# Altium integrated library HK_ALTIUM_COM_LIB.IntLib: 112 symbols
Pins are listed as number, name and electrical type; pins without a type are passive.

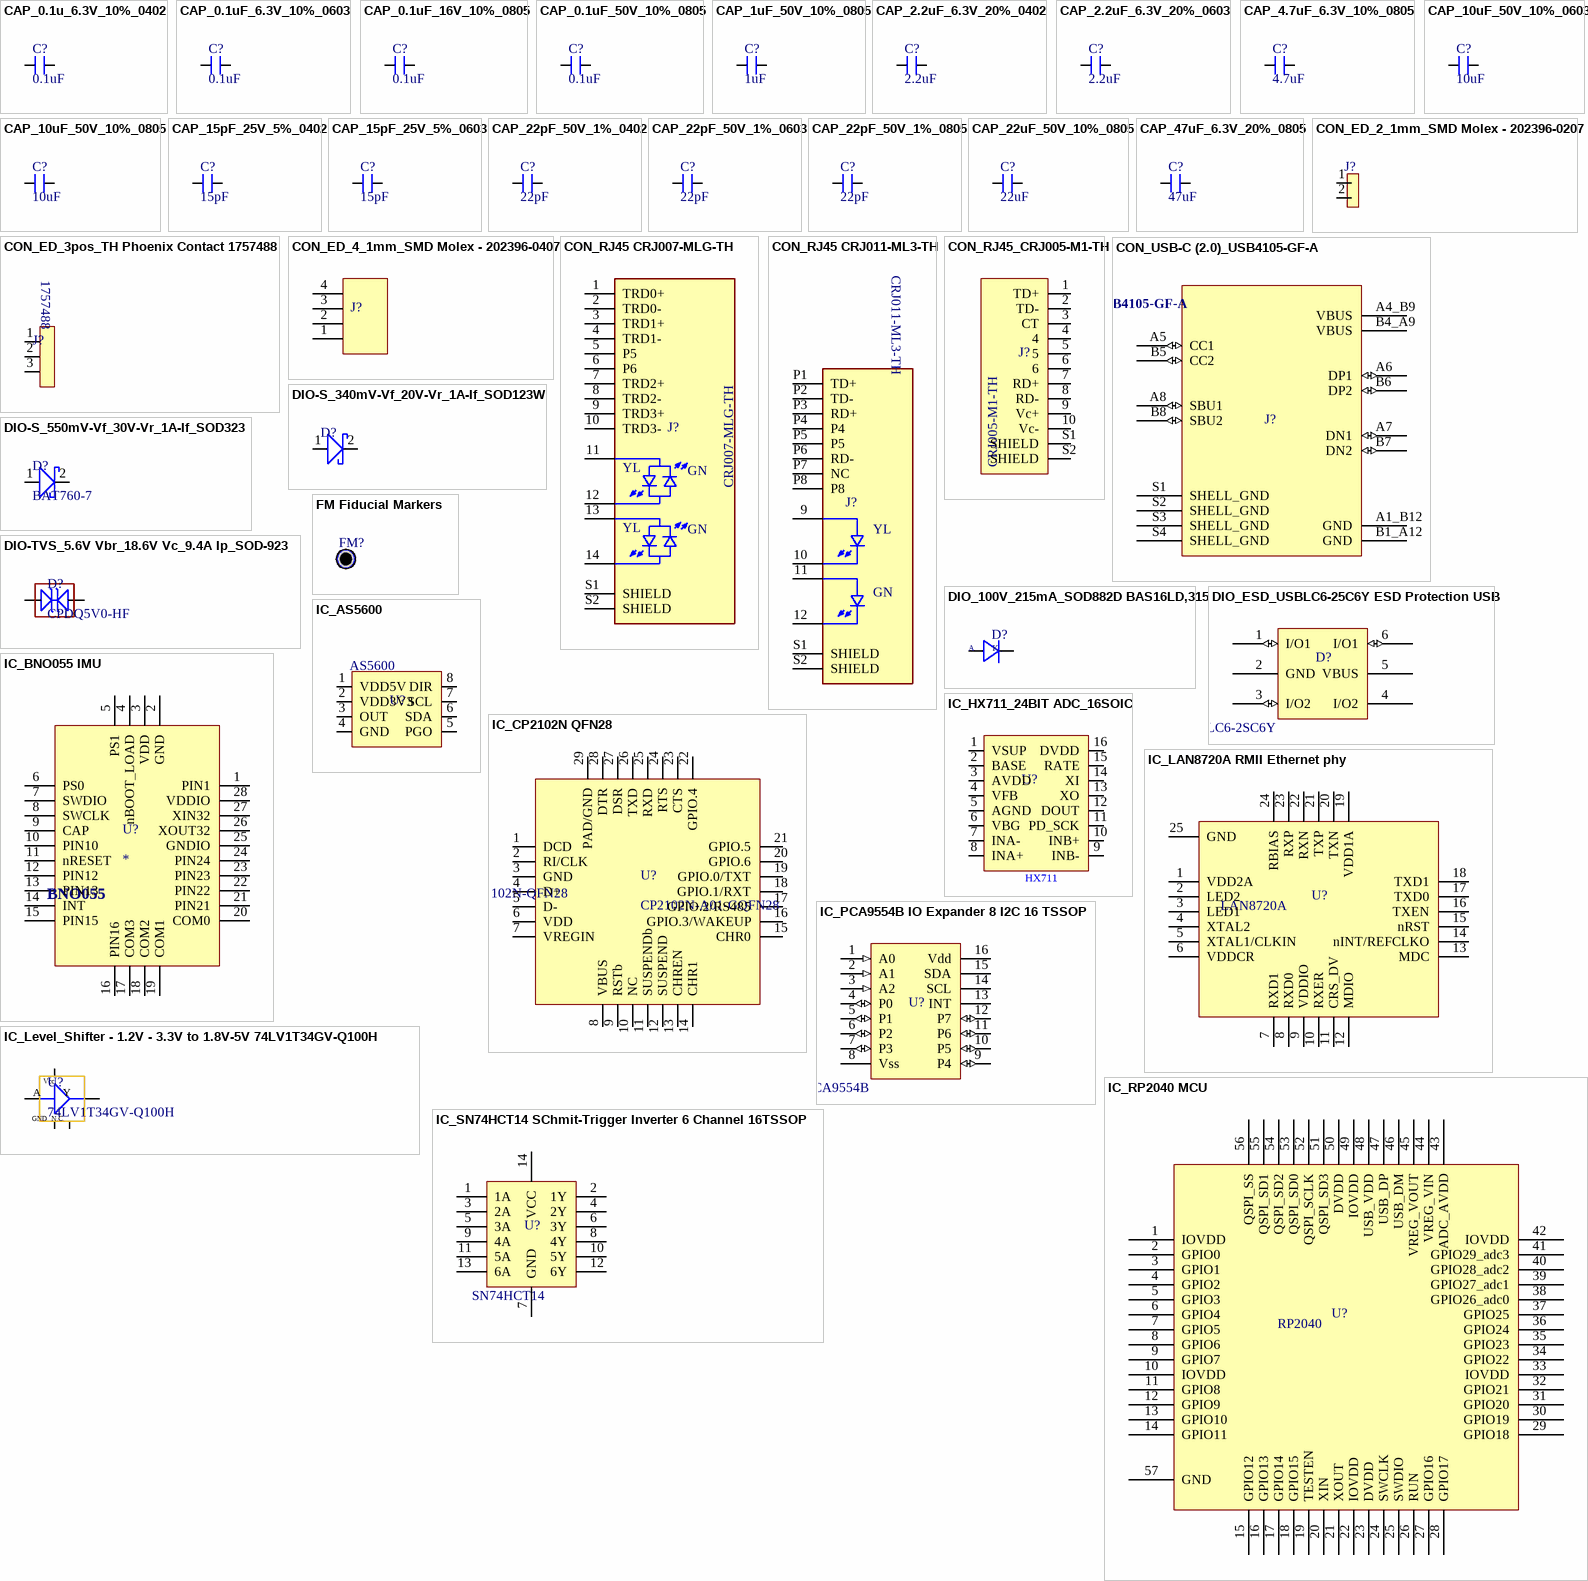
[diagram p0: symbols CAP_0.1u_6.3V_10%_0402 to IC_SN74HCT14 SChmit-Trigger Inverter 6 Channel 16TSSOP]

## CAP_0.1u_6.3V_10%_0402
designator C?, comment 0.1uF
Part No - C0402C104K9PACTU / Cap Ceramic 0.1uF 6.3V X5R 10% SMD 0402 85C Paper T/R
footprint CAP_0402
pins: 1, 2

## CAP_0.1uF_6.3V_10%_0603
designator C?, comment 0.1uF
footprint CAP_0603 (Chip Capacitor 0603, 2-Leads, Body 1.68x0.88mm, IPC Medium Density)
pins: 1, 2

## CAP_0.1uF_16V_10%_0805
designator C?, comment 0.1uF
Part No- C0805C104K4RACTU / Cap Ceramic 0.1uF 16V X7R 10% SMD 0805 125°C T/R
footprint CAP_0805 (Chip Capacitor, 2-Leads, Body 2.10x1.35mm, IPC Medium Density)
pins: 1, 2

## CAP_0.1uF_50V_10%_0805
designator C?, comment 0.1uF
footprint CAP_0805 (Chip Capacitor, 2-Leads, Body 2.10x1.35mm, IPC Medium Density)
pins: 1, 2

## CAP_1uF_50V_10%_0805
designator C?, comment 1uF
footprint CAP_0805 (Chip Capacitor, 2-Leads, Body 2.10x1.35mm, IPC Medium Density)
pins: 1, 2

## CAP_2.2uF_6.3V_20%_0402
designator C?, comment 2.2uF
Part No- C0402C225M9PACTU / CAP CER 2.2UF 6.3V X5R 0402
footprint CAP_0402
pins: 1, 2

## CAP_2.2uF_6.3V_20%_0603
designator C?, comment 2.2uF
Part No- C0603C225M9PACTU / Cap Ceramic 2.2uF 6.3V X5R 20% SMD 0603 85°C Paper T/R
footprint CAP_0603 (Chip Capacitor 0603, 2-Leads, Body 1.68x0.88mm, IPC Medium Density)
pins: 1, 2

## CAP_4.7uF_6.3V_10%_0805
designator C?, comment 4.7uF
footprint CAP_0805 (Chip Capacitor, 2-Leads, Body 2.10x1.35mm, IPC Medium Density)
pins: 1, 2

## CAP_10uF_50V_10%_0603
designator C?, comment 10uF
footprint CAP_0603 (Chip Capacitor 0603, 2-Leads, Body 1.68x0.88mm, IPC Medium Density)
pins: 1, 2

## CAP_10uF_50V_10%_0805
designator C?, comment 10uF
footprint CAP_0805 (Chip Capacitor, 2-Leads, Body 2.10x1.35mm, IPC Medium Density)
pins: 1, 2

## CAP_15pF_25V_5%_0402
designator C?, comment 15pF
Part No- CC0402JRNPO8BN150 / 0402 15 pF 25 V ±5% Tolerance C0G/NP0 Multilayer Ceramic Capacitor
footprint CAP_0402
pins: 1, 2

## CAP_15pF_25V_5%_0603
designator C?, comment 15pF
Part No- CC0603JRNPO8BN150 / Surface Mount Ceramic Multilayer Capacitor 15pF 5% C0G 25V 0603 Paper T/R
footprint CAP_0603 (Chip Capacitor 0603, 2-Leads, Body 1.68x0.88mm, IPC Medium Density)
pins: 1, 2

## CAP_22pF_50V_1%_0402
designator C?, comment 22pF
PArt No- C0402C220F5HACAUTO / CAP CER 0402 22PF 50V ULTRA STAB
footprint CAP_0402
pins: 1, 2

## CAP_22pF_50V_1%_0603
designator C?, comment 22pF
Part No- C0603C220F5GACAUTO / Cap, AEC-Q200, 22PF, 50V, Mlcc, 0603;
footprint CAP_0603 (Chip Capacitor 0603, 2-Leads, Body 1.68x0.88mm, IPC Medium Density)
pins: 1, 2

## CAP_22pF_50V_1%_0805
designator C?, comment 22pF
Part No- C0805C220F5GACTU / Cap Ceramic 22pF 50V C0G 1% SMD 0805 125°C Paper T/R
footprint CAP_0805 (Chip Capacitor, 2-Leads, Body 2.10x1.35mm, IPC Medium Density)
pins: 1, 2

## CAP_22uF_50V_10%_0805
designator C?, comment 22uF
footprint CAP_0805 (Chip Capacitor, 2-Leads, Body 2.10x1.35mm, IPC Medium Density)
pins: 1, 2

## CAP_47uF_6.3V_20%_0805
designator C?, comment 47uF
Part No- C0805C476M9PACTU / CAP CER 47UF 6.3V X5R 0805
footprint CAP_0805 (Chip Capacitor, 2-Leads, Body 2.10x1.35mm, IPC Medium Density)
pins: 1, 2

## CON_ED_2_1mm_SMD Molex - 202396-0207
designator J?  (value not drawn)
Conn Shrouded Header (4 Sides) HDR 2 POS 1mm Solder RA Side Entry SMD Pico-Clasp™ T/R
pins: 1 A, 2 B

## CON_ED_3pos_TH Phoenix Contact 1757488
designator J?  (value not drawn)
TERM BLOCK HDR 3POS 90DEG 5MM / 3 Position Terminal Block Header, Male Pins, Shrouded (4 Side) 0.197" (5.00mm) 90°, Right Angle Through Hole / Mates with : 1765344
footprint CON_ED_3Pos_TH Phoenix Contact 1757488
pins: 1 13, 2 14, 3 15
text: 1757488

## CON_ED_4_1mm_SMD Molex - 202396-0407
designator J?  (value not drawn)
Conn Shrouded Header (4 Sides) HDR 4 POS 1mm Solder RA SMD Pico-Clasp™ T/R
pins: 1 GND, 2 SDA, 3 SCL, 4 VCC

## CON_RJ45 CRJ007-MLG-TH
designator J?  (value not drawn)
RJ JACK, 1 PORT, 8P8C, GOLD FLAS / 1 Port RJ45Through Hole 10/100/1000 Base-T
footprint CON_RJ45 CRJ007-MLG-TH
pins: 1 TRD0+, 2 TRD0-, 3 TRD1+, 4 TRD1-, 5 P5, 6 P6, 7 TRD2+, 8 TRD2-, 9 TRD3+, 10 TRD3-, 11, 12, 13, 14, S1 SHIELD, S2 SHIELD
text: CRJ007-MLG-TH; YL; GN

## CON_RJ45 CRJ011-ML3-TH
designator J?  (value not drawn)
RJ JACK, 1 PORT, 8P8C, 30U, SHEI / 1 Port RJ45Through Hole 10/100 Base-T
footprint CON_RJ45 CRJ011-ML3-TH
pins: 9, 10, 11, 12, P1 TD+, P2 TD-, P3 RD+, P4, P5, P6 RD-, P7 NC, P8, S1 SHIELD, S2 SHIELD
text: CRJ011-ML3-TH; YL; GN

## CON_RJ45_CRJ005-M1-TH
designator J?  (value not drawn)
footprint CON_RJ45_TH
pins: 1 TD+, 2 TD-, 3 CT, 4, 5, 6, 7 RD+, 8 RD-, 9 Vc+, 10 Vc-, S1 SHIELD, S2 SHIELD
text: CRJ005-M1-TH

## CON_USB-C (2.0)_USB4105-GF-A
designator J?  (value not drawn)
Conn USB 2.0 Type C RCP 24 POS 0.3mm/0.5mm Solder RA SMD 24 Terminal 1 Port T/R
footprint CON_USB_TYPE-C-2.0 SMD TH
pins: A1_B12 GND, A4_B9 VBUS, A5 CC1 (io), A6 DP1 (io), A7 DN1 (io), A8 SBU1 (io), B1_A12 GND, B4_A9 VBUS, B5 CC2 (io), B6 DP2 (io), B7 DN2 (io), B8 SBU2 (io), S1 SHELL_GND, S2 SHELL_GND, S3 SHELL_GND, S4 SHELL_GND
text: USB4105-GF-A

## DIO-S_340mV-Vf_20V-Vr_1A-If_SOD123W
designator D?  (value not drawn)
Part No- PMEG2010ER,115 / DIODE SCHOTTKY 20V 1A SOD123W
pins: 1, 2

## DIO-S_550mV-Vf_30V-Vr_1A-If_SOD323
designator D?, comment BAT760-7
Diode 30 V 1A Surface Mount SOD-323
footprint SOD323 BAT760-7
pins: 1, 2

## DIO-TVS_5.6V Vbr_18.6V Vc_9.4A Ip_SOD-923
designator D?, comment CPDQ5V0-HF
CPDQ5V0-HF / TVS DIODE 5VWM 18.6V 0402/SOD923 / 18.6V Clamp 9.4A (8/20µs) Ipp Tvs Diode Surface Mount 0402/SOD-923F
footprint SOD-923F CPDQ5V0 (SODFL, 2-Leads, Body 0.60x1.00mm, IPC Medium Density)
pins: 1, 2 "1"

## DIO_100V_215mA_SOD882D BAS16LD,315
designator D?  (value not drawn)
DIODE GP 100V 215MA SOD882D
pins: 1, 2
text: A; K

## DIO_ESD_USBLC6-25C6Y ESD Protection USB
designator D?  (value not drawn)
USBLC6 Series 2 Line 6 V Uni / Bi Directional ESD Protection - SOT-23-6
pins: 1 I/O1 (io), 2 GND, 3 I/O2 (io), 4 I/O2, 5 VBUS, 6 I/O1 (io)
text: USBLC6-2SC6Y

## FM Fiducial Markers
designator FM?  (value not drawn)
Fiducial Markers for Pick and Place Machines

## IC_AS5600
designator U?  (value not drawn)
SENSOR ANGLE 360DEG SMD
footprint SOIC8_1.27mm AS5600 (SOIC, 8-Leads, Body 4.90x3.90mm, Pitch 1.27mm, IPC Medium Density)
pins: 1 VDD5V, 2 VDD3V3, 3 OUT, 4 GND, 5 PGO, 6 SDA, 7 SCL, 8 DIR
text: AS5600

## IC_BNO055 IMU
designator U?
BNO055 Series 1.7 to 3.6 V Intelligent 9-Axis Absolute Orientation Sensor-LGA-28
pins: 1 PIN1, 2 GND, 3 VDD, 4 nBOOT_LOAD, 5 PS1, 6 PS0, 7 SWDIO, 8 SWCLK, 9 CAP, 10 PIN10, 11 nRESET, 12 PIN12, 13 PIN13, 14 INT, 15 PIN15, 16 PIN16, 17 COM3, 18 COM2, 19 COM1, 20 COM0, 21 PIN21, 22 PIN22, 23 PIN23, 24 PIN24, 25 GNDIO, 26 XOUT32, 27 XIN32, 28 VDDIO
text: BNO055

## IC_CP2102N QFN28
designator U?, comment CP2102N-A01-GQFN28
CP2102N-A02-GQFN28 / USB Bridge, USB to UART USB 2.0 UART Interface 28-QFN (5x5)
footprint QFN28_0.5mm CP2102N
pins: 1 DCD "1", 2 RI/CLK "1", 3 GND "1", 4 D+ "1", 5 D- "1", 6 VDD "1", 7 VREGIN "1", 8 VBUS "1", 9 RSTb "1", 10 NC "1", 11 SUSPENDb "1", 12 SUSPEND "1", 13 CHREN "1", 14 CHR1 "1", 15 CHR0 "1", 16 GPIO.3/WAKEUP "1", 17 GPIO.2/RS485 "1", 18 GPIO.1/RXT "1", 19 GPIO.0/TXT "1", 20 GPIO.6 "1", 21 GPIO.5 "1", 22 GPIO.4 "1", 23 CTS "1", 24 RTS "1", 25 RXD "1", 26 TXD "1", 27 DSR "1", 28 DTR "1", 29 PAD/GND "1"
text: CP2102N-QFN28

## IC_HX711_24BIT ADC_16SOIC
designator U?, comment HX711  (value not drawn)
24 BIT Analog to Digital Converter for weight scales
footprint SOIC16_1.27mm HX711
pins: 1 VSUP "1", 2 BASE "1", 3 AVDD "1", 4 VFB "1", 5 AGND "1", 6 VBG "1", 7 INA- "1", 8 INA+ "1", 9 INB- "1", 10 INB+ "1", 11 PD_SCK "1", 12 DOUT "1", 13 XO "1", 14 XI "1", 15 RATE "1", 16 DVDD "1"

## IC_LAN8720A RMII Ethernet phy
designator U?  (value not drawn)
IC TRANSCEIVER FULL 2/2 24QFN
footprint QFN-24_0.5mm LAN8720A
pins: 1 VDD2A, 2 LED2, 3 LED1, 4 XTAL2, 5 XTAL1/CLKIN, 6 VDDCR, 7 RXD1, 8 RXD0, 9 VDDIO, 10 RXER, 11 CRS_DV, 12 MDIO, 13 MDC, 14 nINT/REFCLKO, 15 nRST, 16 TXEN, 17 TXD0, 18 TXD1, 19 VDD1A, 20 TXN, 21 TXP, 22 RXN, 23 RXP, 24 RBIAS, 25 GND
text: LAN8720A

## IC_Level_Shifter - 1.2V - 3.3V to 1.8V-5V 74LV1T34GV-Q100H
designator U?, comment 74LV1T34GV-Q100H
IC BUFFER NON-INVERT 5.5V SC74A / Buffer, Non-Inverting 1 Element 1 Bit per Element Push-Pull Output SC-74A
footprint SO70,5_0.65mm_2.00mm*1.25mm SN74LV1T34DCKR
pins: 1 N.C. "1", 2 A "1", 3 GND "1", 4 Y "1", 5 Vcc "1"

## IC_PCA9554B IO Expander 8 I2C 16 TSSOP
designator U?  (value not drawn)
IC XPND 400KHZ I2C SMBUS 16TSSOP
footprint TSSOP16_SOT403-1 PCA9554B
pins: 1 A0 (in) "Address Input 0", 2 A1 (in) "Address Input 1", 3 A2 (in) "Address Input 2", 4 P0 (io) "Port P input/output 0", 5 P1 (io) "Port P input/output 1", 6 P2 (io) "Port P input/output 2", 7 P3 (io) "Port P input/output 3", 8 Vss "Supply Ground", 9 P4 (io) "Port P input/output 4", 10 P5 (io) "Port P input/output 5", 11 P6 (io) "Port P input/output 6", 12 P7 (io) "Port P input/output 7", 13 INT "Interrupt Output (Open Drain)", 14 SCL "Serial Clock LIne", 15 SDA "Serial Data Line", 16 Vdd "Supply Voltage"
text: PCA9554B

## IC_RP2040 MCU
designator U?  (value not drawn)
IC MCU 32BIT EXT MEM 56QFN
pins: 1 IOVDD, 2 GPIO0, 3 GPIO1, 4 GPIO2, 5 GPIO3, 6 GPIO4, 7 GPIO5, 8 GPIO6, 9 GPIO7, 10 IOVDD, 11 GPIO8, 12 GPIO9, 13 GPIO10, 14 GPIO11, 15 GPIO12, 16 GPIO13, 17 GPIO14, 18 GPIO15, 19 TESTEN, 20 XIN, 21 XOUT, 22 IOVDD, 23 DVDD, 24 SWCLK, 25 SWDIO, 26 RUN, 27 GPIO16, 28 GPIO17, 29 GPIO18, 30 GPIO19, 31 GPIO20, 32 GPIO21, 33 IOVDD, 34 GPIO22, 35 GPIO23, 36 GPIO24, 37 GPIO25, 38 GPIO26_adc0, 39 GPIO27_adc1, 40 GPIO28_adc2, 41 GPIO29_adc3, 42 IOVDD, 43 ADC_AVDD, 44 VREG_VIN, 45 VREG_VOUT, 46 USB_DM, 47 USB_DP, 48 USB_VDD, 49 IOVDD, 50 DVDD, 51 QSPI_SD3, 52 QSPI_SCLK, 53 QSPI_SD0, 54 QSPI_SD2, 55 QSPI_SD1, 56 QSPI_SS, 57 GND
text: RP2040

## IC_SN74HCT14 SChmit-Trigger Inverter 6 Channel 16TSSOP
designator U?  (value not drawn)
IC INV SCHMITT 6CH 1-IN 14SOIC
footprint SO-14_1.27 IC SN74HCT14
pins: 1 1A "Channel 1 Input", 2 1Y "Channel 1 Output", 3 2A "Channel 2 Input", 4 2Y "Channel 2 Output", 5 3A "Channel 3 Input", 6 3Y "Channel 3 Output", 7 GND "Ground", 8 4Y "Channel 4 Output", 9 4A "Channel 4 Input", 10 5Y "Channel 5 Output", 11 5A "Channel 5 Input", 12 6Y "Channel 6 Output", 13 6A "Channel 6 Input", 14 VCC "Power Supply"
text: SN74HCT14

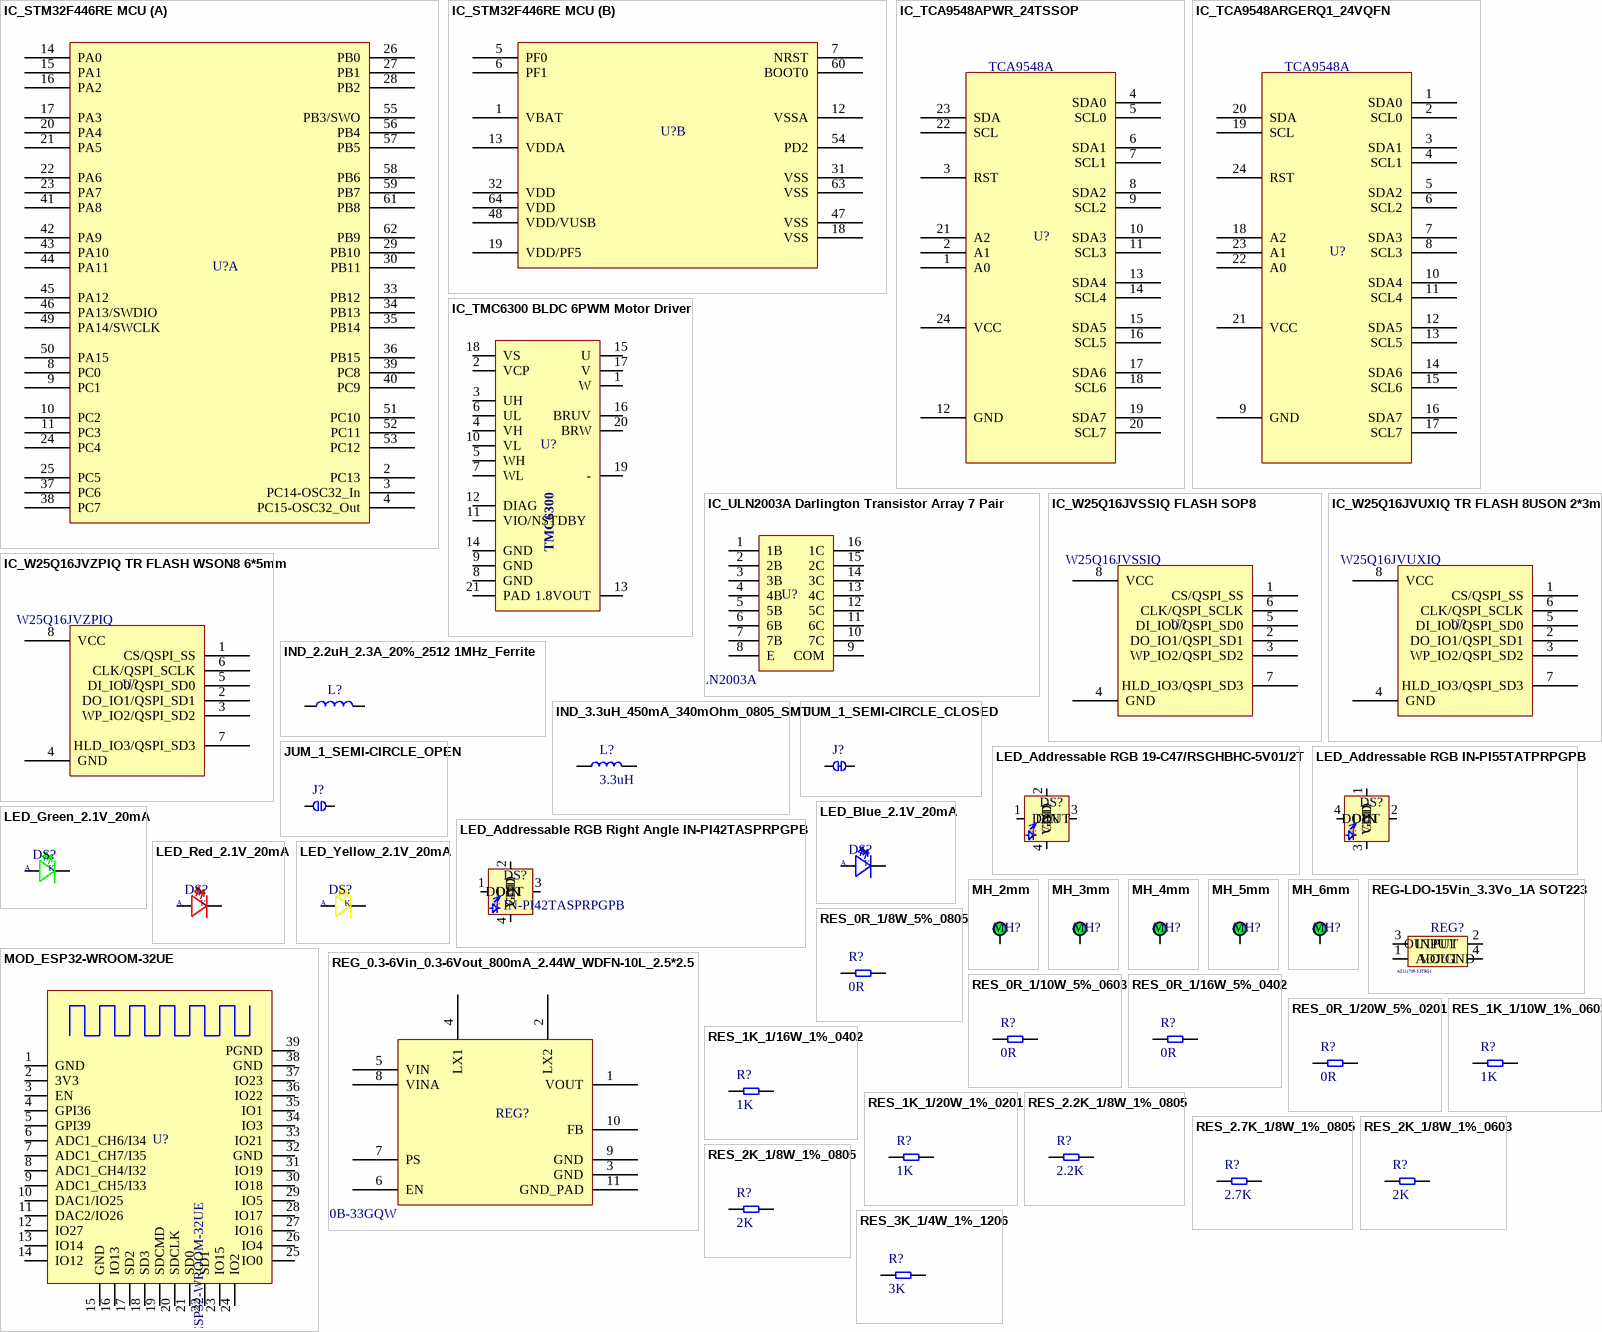
[diagram p1: symbols IC_STM32F446RE MCU to RES_3K_1/4W_1%_1206]

## IC_STM32F446RE MCU
designator U?  (value not drawn)
ARM® Cortex®-M4 STM32 F4 Microcontroller IC 32-Bit 180MHz 512KB (512K x 8) FLASH 64-LQFP (10x10)
part A pins: 2 PC13, 3 PC14-OSC32_In, 4 PC15-OSC32_Out, 8 PC0, 9 PC1, 10 PC2, 11 PC3, 14 PA0, 15 PA1, 16 PA2, 17 PA3, 20 PA4, 21 PA5, 22 PA6, 23 PA7, 24 PC4, 25 PC5, 26 PB0, 27 PB1, 28 PB2, 29 PB10, 30 PB11, 33 PB12, 34 PB13, 35 PB14, 36 PB15, 37 PC6, 38 PC7, 39 PC8, 40 PC9, 41 PA8, 42 PA9, 43 PA10, 44 PA11, 45 PA12, 46 PA13/SWDIO, 49 PA14/SWCLK, 50 PA15, 51 PC10, 52 PC11, 53 PC12, 55 PB3/SWO, 56 PB4, 57 PB5, 58 PB6, 59 PB7, 61 PB8, 62 PB9
part B pins: 1 VBAT, 5 PF0, 6 PF1, 7 NRST, 12 VSSA, 13 VDDA, 18 VSS, 19 VDD/PF5, 31 VSS, 32 VDD, 47 VSS, 48 VDD/VUSB, 54 PD2, 60 BOOT0, 63 VSS, 64 VDD

## IC_TCA9548APWR_24TSSOP
designator U?  (value not drawn)
IC I2C SW 8CH W/RESET 24TSSOP
pins: 1 A0, 2 A1, 3 RST, 4 SDA0, 5 SCL0, 6 SDA1, 7 SCL1, 8 SDA2, 9 SCL2, 10 SDA3, 11 SCL3, 12 GND, 13 SDA4, 14 SCL4, 15 SDA5, 16 SCL5, 17 SDA6, 18 SCL6, 19 SDA7, 20 SCL7, 21 A2, 22 SCL, 23 SDA, 24 VCC
text: TCA9548A

## IC_TCA9548ARGERQ1_24VQFN
designator U?  (value not drawn)
I2C Switch with Reset 8 Channel Bi-Directional 1.65V to 5.25V 24-Pin VQFN Cut Tape
pins: 1 SDA0, 2 SCL0, 3 SDA1, 4 SCL1, 5 SDA2, 6 SCL2, 7 SDA3, 8 SCL3, 9 GND, 10 SDA4, 11 SCL4, 12 SDA5, 13 SCL5, 14 SDA6, 15 SCL6, 16 SDA7, 17 SCL7, 18 A2, 19 SCL, 20 SDA, 21 VCC, 22 A0, 23 A1, 24 RST
text: TCA9548A

## IC_TMC6300 BLDC 6PWM Motor Driver
designator U?  (value not drawn)
Highly Efficient Low Voltage, Zero Standby Current Driver for 3-Phase BLDC/PMSM Motors up to 2A peak, / Triple Half-Bridge with separate HS and LS control signals.
footprint QFN20_0.4mm 5x5 TMC6300
pins: 1 W, 2 VCP, 3 UH, 4 VH, 5 WH, 6 UL, 7 WL, 8 GND, 9 GND, 10 VL, 11 VIO/NSTDBY, 12 DIAG, 13 1.8VOUT, 14 GND, 15 U, 16 BRUV, 17 V, 18 VS, 19 -, 20 BRW, 21 PAD
text: TMC6300

## IC_ULN2003A Darlington Transistor Array 7 Pair
designator U?  (value not drawn)
IC PWR RELAY 7NPN 1:1 16SO
footprint SO-16_1.27 IC ULN200xA
pins: 1 1B "Input Pair 1", 2 2B "Input Pair 2", 3 3B "Input Pair 3", 4 4B "Input Pair 4", 5 5B "Input Pair 5", 6 6B "Input Pair 6", 7 7B "Input Pair 7", 8 E "Common Emitter (Ground)", 9 COM "Common Clamp Diodes", 10 7C "Output Pair 7", 11 6C "Output Pair 6", 12 5C "Output Pair 5", 13 4C "Output Pair 4", 14 3C "Output Pair 3", 15 2C "Output Pair 2", 16 1C "Output Pair 1"
text: ULN2003A

## IC_W25Q16JVSSIQ FLASH SOP8
designator U?  (value not drawn)
ICFLASH16MBIT133MHZ8SOIC
pins: 1 CS/QSPI_SS, 2 DO_IO1/QSPI_SD1, 3 WP_IO2/QSPI_SD2, 4 GND, 5 DI_IO0/QSPI_SD0, 6 CLK/QSPI_SCLK, 7 HLD_IO3/QSPI_SD3, 8 VCC
text: W25Q16JVSSIQ

## IC_W25Q16JVUXIQ TR FLASH 8USON 2*3mm
designator U?  (value not drawn)
NOR Flash Serial (SPI, Dual SPI, Quad SPI) 3V/3.3V 16M-bit 2M x 8 6ns 8-Pin USON EP T/R
pins: 1 CS/QSPI_SS, 2 DO_IO1/QSPI_SD1, 3 WP_IO2/QSPI_SD2, 4 GND, 5 DI_IO0/QSPI_SD0, 6 CLK/QSPI_SCLK, 7 HLD_IO3/QSPI_SD3, 8 VCC
text: W25Q16JVUXIQ

## IC_W25Q16JVZPIQ TR FLASH WSON8 6*5mm
designator U?  (value not drawn)
IC Flash 16MBIT Spi/quad 8WSON
pins: 1 CS/QSPI_SS, 2 DO_IO1/QSPI_SD1, 3 WP_IO2/QSPI_SD2, 4 GND, 5 DI_IO0/QSPI_SD0, 6 CLK/QSPI_SCLK, 7 HLD_IO3/QSPI_SD3, 8 VCC
text: W25Q16JVZPIQ

## IND_2.2uH_2.3A_20%_2512 1MHz_Ferrite
designator L?  (value not drawn)
Part No- SRN2512-2R2M / Ind Power Semi-Shielded Wirewound 2.2uH 20% 1MHz Ferrite 2.3A 2512 T/R
pins: 1, 2 1

## IND_3.3uH_450mA_340mOhm_0805_SMT
designator L?, comment 3.3uH
footprint IND_0805
pins: 1, 2 1

## JUM_1_SEMI-CIRCLE_CLOSED
designator J?  (value not drawn)  (net tie, no BOM)
Jumper - Short Circuit - Press Cut Open
pins: 1, 2

## JUM_1_SEMI-CIRCLE_OPEN
designator J?  (value not drawn)  (net tie, no BOM)
Jumper - Open Circuit - Solder to Close
pins: 1, 2

## LED_Addressable RGB 19-C47/RSGHBHC-5V01/2T
designator DS?  (value not drawn)
Addressable Lighting - 1 LED Serial Red, Green, Blue (RGB) 1.80mm L x 1.80mm W
footprint LED_Addressable 19-C47/RSGHBHC-5V01/2T
pins: 1 DOUT, 2 VDD, 3 DIN, 4 GND
text: RGB; LED

## LED_Addressable RGB IN-PI55TATPRPGPB
designator DS?  (value not drawn)
Addressable Lighting - 1 LED Discrete Serial (Shift Register) Red, Green, Blue (RGB) 5.00mm L x 5.00mm W
footprint LED_Addressable IN-PI55TATPRPGPB (5.00mm L x 5.00mm W)
pins: 1 VDD, 2 DOUT, 3 GND, 4 DIN
text: RGB; LED

## LED_Addressable RGB Right Angle IN-PI42TASPRPGPB
designator DS?, comment IN-PI42TASPRPGPB
Addressable Lighting - 1 LED Discrete Serial (Shift Register) Red, Green, Blue (RGB) 4.00mm L x 1.50mm W
footprint LED_RIght-Angle_IN-PI42TASPRPGPB
pins: 1 DIN, 2 VDD, 3 DOUT, 4 GND
text: RGB; LED

## LED_Blue_2.1V_20mA
designator DS?  (value not drawn)
footprint LED_0805
pins: 1, 2
text: A; K

## LED_Green_2.1V_20mA
designator DS?  (value not drawn)
footprint LED_0805
pins: 1, 2
text: A; K

## LED_Red_2.1V_20mA
designator DS?  (value not drawn)
footprint LED_0805
pins: 1, 2
text: A; K

## LED_Yellow_2.1V_20mA
designator DS?  (value not drawn)
footprint LED_0805
pins: 1, 2
text: A; K

## MH_2mm
designator MH?  (value not drawn)
Mounting Hole 2mm
footprint MH_2mm
pins: 1

## MH_3mm
designator MH?  (value not drawn)
Mounting Hole 3mm
footprint MH_3mm
pins: 1

## MH_4mm
designator MH?  (value not drawn)
Mounting Hole 4mm
footprint MH_4mm
pins: 1

## MH_5mm
designator MH?  (value not drawn)
Mounting Hole 5mm
footprint MH_5mm
pins: 1

## MH_6mm
designator MH?  (value not drawn)
Mounting Hole 6mm
footprint MH_6mm
pins: 1

## MOD_ESP32-WROOM-32UE
designator U?  (value not drawn)
Part No. ESP32-WROOM-32UE-N4 / Bluetooth, WiFi 802.11b/g/n, Bluetooth v4.2 +EDR, Class 1, 2 and 3 Transceiver Module 2.4GHz ~ 2.5GHz Antenna Not Included, U.FL Surface Mount
footprint MOD-ESP32-WROOM_32UE
pins: 1 GND, 2 3V3, 3 EN, 4 GPI36, 5 GPI39, 6 ADC1_CH6/I34, 7 ADC1_CH7/I35, 8 ADC1_CH4/I32, 9 ADC1_CH5/I33, 10 DAC1/IO25, 11 DAC2/IO26, 12 IO27, 13 IO14, 14 IO12, 15 GND, 16 IO13, 17 SD2, 18 SD3, 19 SDCMD, 20 SDCLK, 21 SD0, 22 SD1, 23 IO15, 24 IO2, 25 IO0, 26 IO4, 27 IO16, 28 IO17, 29 IO5, 30 IO18, 31 IO19, 32 GND, 33 IO21, 34 IO3, 35 IO1, 36 IO22, 37 IO23, 38 GND, 39 PGND
text: ESP32-WROOM-32UE

## REG-LDO-15Vin_3.3Vo_1A SOT223
designator REG?, comment AZ1117IH-3.3TRG1  (value not drawn)
Linear Voltage Regulator IC Positive Fixed 1 Output 1A SOT-223-3
footprint SOT223 AZ11171 (SOT223, 4-Leads, Body 6.50x7.00mm (avg), Pitch 2.30mm, IPC Medium Density)
pins: 1 ADJ/GND "1", 2 OUTPUT "1", 3 INPUT "1", 4 VOUT "1"

## REG_0.3-6Vin_0.3-6Vout_800mA_2.44W_WDFN-10L_2.5*2.5
designator REG?  (value not drawn)
Part No- RT6150B-33GQW / IC Reg Bck Bst 3.3V 800MA 10WDFN
pins: 1 VOUT, 2 LX2, 3 GND, 4 LX1, 5 VIN, 6 EN, 7 PS, 8 VINA, 9 GND, 10 FB, 11 GND_PAD
text: RT6150B-33GQW

## RES_0R_1/8W_5%_0805
designator R?, comment 0R
footprint RES_0805
pins: 1, 2

## RES_0R_1/10W_5%_0603
designator R?, comment 0R
footprint RES_0603
pins: 1, 2

## RES_0R_1/16W_5%_0402
designator R?, comment 0R
footprint RES_0402
pins: 1, 2

## RES_0R_1/20W_5%_0201
designator R?, comment 0R
footprint RES_0201
pins: 1, 2

## RES_1K_1/10W_1%_0603
designator R?, comment 1K
Part No- RC0603FR-071KL / Res Thick Film 0603 1K Ohm 1% 1/10W ±100ppm/°C Molded SMD SMD Paper T/R
footprint RES_0603
pins: 1, 2

## RES_1K_1/16W_1%_0402
designator R?, comment 1K
Part No- RC0402FR-071KL / 1 kOhms ¡À1% 0.063W, 1/16W Chip Resistor 0402 (1005 Metric) Moisture Resistant Thick Film
footprint RES_0402
pins: 1, 2

## RES_1K_1/20W_1%_0201
designator R?, comment 1K
Part No- RC0201FR-071KL / Res Thick Film 0201 1K Ohm 1% 1/20W ±200ppm/°C Molded SMD SMD Paper T/R
footprint RES_0201
pins: 1, 2

## RES_2.2K_1/8W_1%_0805
designator R?, comment 2.2K
footprint RES_0805
pins: 1, 2

## RES_2.7K_1/8W_1%_0805
designator R?, comment 2.7K
Part No- RC0805FR-072K7L / Res Thick Film 0805 2.7K Ohm 1% 0.125W(1/8W) ±100ppm/C Pad SMD T/R /
footprint RES_0805
pins: 1, 2

## RES_2K_1/8W_1%_0603
designator R?, comment 2K
footprint RES_0603
pins: 1, 2

## RES_2K_1/8W_1%_0805
designator R?, comment 2K
Part No: RC0805FR-102KL / RES 2K OHM 1% 1/8W 0805
footprint RES_0805
pins: 1, 2

## RES_3K_1/4W_1%_1206
designator R?, comment 3K
Part No- RC1206FR-073KL / RES 3K OHM 1% 1/4W 1206
footprint RES_1206
pins: 1, 2

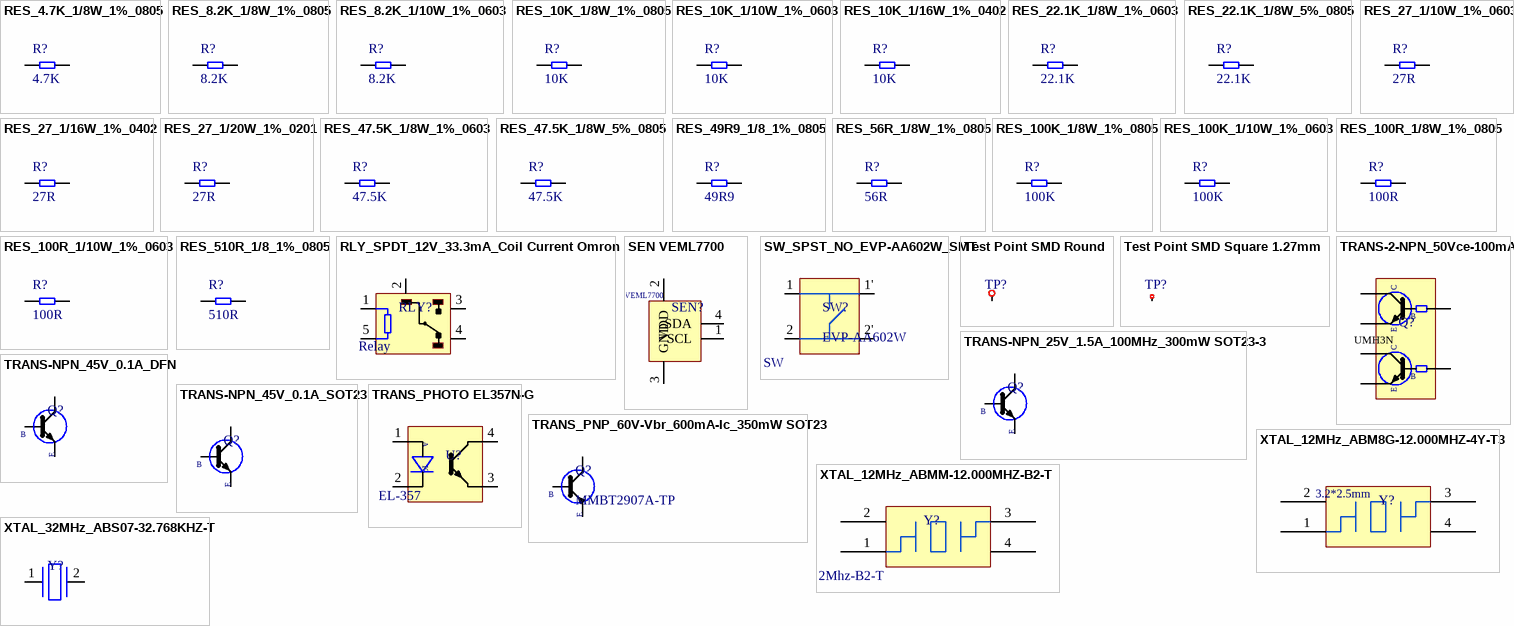
[diagram p2: symbols RES_4.7K_1/8W_1%_0805 to XTAL_32MHz_ABS07-32.768KHZ-T]

## RES_4.7K_1/8W_1%_0805
designator R?, comment 4.7K
Part No- RC0805FR-134K7L / RES 4.7K OHM 1% 1/8W 0805
footprint RES_0805
pins: 1, 2

## RES_8.2K_1/8W_1%_0805
designator R?, comment 8.2K
footprint RES_0805
pins: 1, 2

## RES_8.2K_1/10W_1%_0603
designator R?, comment 8.2K
footprint RES_0603
pins: 1, 2

## RES_10K_1/8W_1%_0805
designator R?, comment 10K
Part No- RC0805FR-0710KL / Res Thick Film 0805 10K Ohm 1% 0.125W(1/8W) +/-100ppm/C Epoxy Pad SMD T/R
footprint RES_0805
pins: 1, 2

## RES_10K_1/10W_1%_0603
designator R?, comment 10K
Part No- RC0603FR-0710KL / RES SMD 10K OHM 1% 1/10W 0603
footprint RES_0603
pins: 1, 2

## RES_10K_1/16W_1%_0402
designator R?, comment 10K
Part No- RC0402FR-0710KL / Res General Purpose Thick Film 0402 10K Ohm 1% 1/16W ±100ppm/°C Molded SMD Paper T/R
footprint RES_0402
pins: 1, 2

## RES_22.1K_1/8W_1%_0603
designator R?, comment 22.1K
footprint RES_0603
pins: 1, 2

## RES_22.1K_1/8W_5%_0805
designator R?, comment 22.1K
footprint RES_0805
pins: 1, 2

## RES_27_1/10W_1%_0603
designator R?, comment 27R
Part No- RC0603FR-0727RL / Res General Purpose Thick Film 0603 27 Ohm 1% 1/10W ±100ppm/°C Molded SMD Paper T/R
footprint RES_0603
pins: 1, 2

## RES_27_1/16W_1%_0402
designator R?, comment 27R
Part No- RC0402FR-0727RL / Res Thick Film 0402 27 Ohm 1% 0.063W(1/16W) ±100ppm/°C Pad SMD T/R
footprint RES_0402
pins: 1, 2

## RES_27_1/20W_1%_0201
designator R?, comment 27R
Part No- RC0201FR-0727RL / Res Thick Film 0201 27 Ohm 1% 1/20W ±200ppm/°C Molded SMD Paper T/R
footprint RES_0201
pins: 1, 2

## RES_47.5K_1/8W_1%_0603
designator R?, comment 47.5K
footprint RES_0603
pins: 1, 2

## RES_47.5K_1/8W_5%_0805
designator R?, comment 47.5K
footprint RES_0805
pins: 1, 2

## RES_49R9_1/8_1%_0805
designator R?, comment 49R9
Res Thick Film 0805 49.9 Ohm 1% 0.125W(1/8W) ±100ppm/C Pad SMD T/R
footprint RES_0805
pins: 1, 2

## RES_56R_1/8W_1%_0805
designator R?, comment 56R
Part No - RC0805FR-0756RL / Res Thick Film 0805 56 Ohm 1% 0.125W(1/8W) ±100ppm/C Pad SMD T/R
footprint RES_0805
pins: 1, 2

## RES_100K_1/8W_1%_0805
designator R?, comment 100K
Part No- RC0805FR-13100KL / RES 100K OHM 1% 1/8W 0805
footprint RES_0805
pins: 1, 2

## RES_100K_1/10W_1%_0603
designator R?, comment 100K
Part No- RC0603FR-07100KL / RES SMD 100K OHM 1% 1/10W 0603
footprint RES_0603
pins: 1, 2

## RES_100R_1/8W_1%_0805
designator R?, comment 100R
footprint RES_0805
pins: 1, 2

## RES_100R_1/10W_1%_0603
designator R?, comment 100R
footprint RES_0603
pins: 1, 2

## RES_510R_1/8_1%_0805
designator R?, comment 510R
RES SMD 510R OHM 1% 1/8W 0805
footprint RES_0805
pins: 1, 2

## RLY_SPDT_12V_33.3mA_Coil Current Omron
designator RLY?  (value not drawn)
RELAY GEN PURPOSE SPDT 10A 12V
footprint Relay_G5Q-14 Omron
pins: 1, 2, 3, 4, 5
text: Relay

## SEN VEML7700
designator SEN?  (value not drawn)
Optical Sensor Ambient I²C 4-SMD, J-Lead
footprint SEN VEML7700
pins: 1 SCL, 2 VDD, 3 GND, 4 SDA
text: VEML7700

## SW_SPST_NO_EVP-AA602W_SMT
designator SW?, comment EVP-AA602W
Switch Tactile N.O. SPST Rectangular Button J-Bend 0.02A 15VDC 3.5N SMD Embossed T/R
footprint SW_Tactile_SPDT EVP-AA602W
pins: 1, 1' 2, 2 3, 2' 4
text: TACTILE SW

## Test Point SMD Round
designator TP?  (value not drawn)
Testpoint SMD Round
footprint Test Point Round 1.27mm
pins: 1

## Test Point SMD Square 1.27mm
designator TP?  (value not drawn)
Testpoint SMD Square
footprint Test Point Square 1.27mm
pins: 1

## TRANS-2-NPN_50Vce-100mA
designator Q?, comment UMH3N  (value not drawn)
Pre-Biased Bipolar Transistor (BJT) 2 NPN - Pre-Biased (Dual) 50V 100mA 250MHz 150mW Surface Mount UMT6
footprint SOT-363 (SC-88) UMH3N
pins: 1 2, 2 B, 3, 4 2, 5 B, 6 3
text: C; E

## TRANS-NPN_25V_1.5A_100MHz_300mW SOT23-3
designator Q?, comment SS8050G  (value not drawn)
SS8050-G / Bipolar (BJT) Transistor NPN 25 V 1.5 A 100MHz 300 mW Surface Mount SOT-23-3
footprint SOT23-3 SS8050 (SOT23, 3-Leads, Body 2.90x2.40mm, Pitch 0.95mm, IPC Medium Density)
pins: 1 B, 2, 3
text: C; E

## TRANS-NPN_45V_0.1A_DFN
designator Q?  (value not drawn)
Part No- BC847BLP-7B / Trans Gp Bjt NPN 45V 0.1A 3-PIN Dfn T/r
pins: 1 B, 2, 3
text: C; E

## TRANS-NPN_45V_0.1A_SOT23
designator Q?  (value not drawn)
Part No- BC847,215 / TRANS NPN 45V 0.1A SOT23
pins: 1 B, 2, 3
text: C; E

## TRANS_PHOTO EL357N-G
designator U?  (value not drawn)
OPTOISOLATOR 3.75KV TRANS 4-SOP
footprint SOP4_2.54_SMT EL357N-G (SOP, 4-Leads, Body 4.20x4.40mm, Pitch 2.54mm, IPC Medium Density)
pins: 1 5, 2 4, 3, 4
text: A; K; EL-357

## TRANS_PNP_60V-Vbr_600mA-Ic_350mW SOT23
designator Q?, comment MMBT2907A-TP
TRANS PNP 60V 0.6A SOT23 / Bipolar (BJT) Transistor PNP 60 V 600 mA 200MHz 350 mW Surface Mount SOT-23
footprint SOT23_1.27 MMBT2907A-TP
pins: 1 B, 2, 3
text: C; E

## XTAL_12MHz_ABM8G-12.000MHZ-4Y-T3
designator Y?  (value not drawn)
Crystal 12MHz ±30ppm (Tol) ±30ppm (Stability) 10pF FUND 120Ohm 4-Pin Ultra Mini-CSMD T/R
pins: 1, 2, 3, 4
text: 3.2*2.5mm

## XTAL_12MHz_ABMM-12.000MHZ-B2-T
designator Y?  (value not drawn)
Crystal 12MHz ±20ppm (Tol) ±50ppm (Stability) 18pF FUND 50Ohm 4-Pin CSMD T/R
pins: 1, 2, 3, 4
text: ABMM-12Mhz-B2-T

## XTAL_32MHz_ABS07-32.768KHZ-T
designator Y?  (value not drawn)
3215 32.7680KHz 12.5pF ±20ppm -40°C~85°C
pins: 1 29, 2 30